# Altium footprint library B43659A5217M057.PcbLib: 1 footprints
Each footprint in its own frame and in the unit in brackets; x right, y up, seen from the top. Pads: shape width x height; smd on the part's side, far side on the other; paste and mask are expansions set on the pad; w line width, h text height; cw(c..) or ccw(c..) is an arc to the next point about the centre after c.
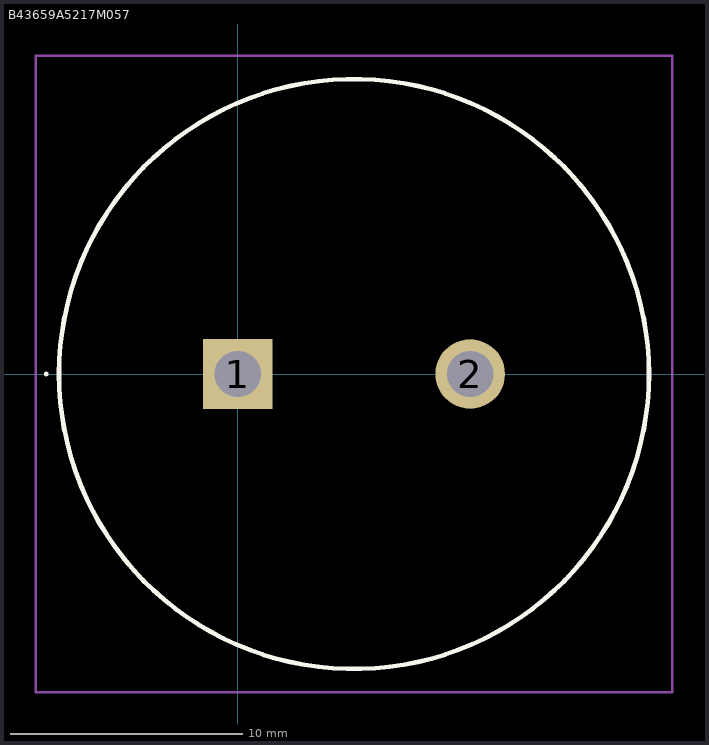
[diagram p0: the footprint, top view; thin cyan lines are the x and y axes]

## B43659A5217M057 [mm]
pads (2):
  rect 3x3 hole 2: 1(0,0)
  round 3 hole 2: 2(10,0)
Top Overlay:
  lines w0.1: -8.3,0 cw(c-8.25,0) -8.2,0 ; -8.3,0 -8.3,0 ; -8.3,0 ccw(c-8.25,0) -8.2,0 ; -8.2,0 -8.2,0
  lines w0.2: -7.7,0 -7.7,0 ; -7.7,0 ccw(c5,0) 17.7,0 ; -7.7,0 cw(c5,0) 17.7,0 ; 17.7,0 17.7,0
Mechanical 15:
  lines w0.1: -7.7,0 -7.7,0 ; -7.7,0 ccw(c5,0) 17.7,0 ; -7.7,0 cw(c5,0) 17.7,0 ; 17.7,0 17.7,0
Mechanical 20:
  lines w0.1: -8.7,-13.7 18.7,-13.7 18.7,13.7 -8.7,13.7 -8.7,-13.7